# Altium schematic symbol library WS-DITU.SchLib: 6 symbols
Pins are listed as number, name and electrical type; pins without a type are passive.

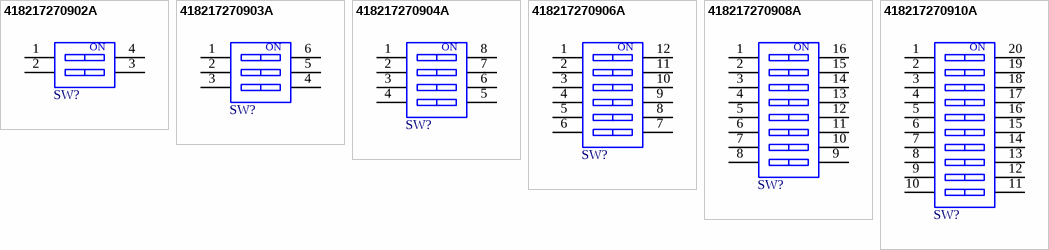
[diagram p0: symbols 418217270902A to 418217270910A]

## 418217270902A
designator SW?  (value not drawn)
WS-DITU Compact THT Right Angled Dip Switch, Raised Actuator, pitch 2.54mm, 2p; Manufacturer: Wurth Elektronik; Actuator Type: Raise Type; Operation Force: 800g; Rated Current Non-Switching: 100mA; Rated Current Switching: 25mA; Rated Voltage Non-Switching: 50VDC; Rated Voltage Switching: 24VDC; Number of Poles: 2; ComponentLink1Description: Website Link; ComponentLink1URL: https://www.we-online.com/redexpert/article/418217270902A?ad; ComponentLink2Description: Datasheet Link; ComponentLink2URL: https://www.we-online.com/redexpert/spec/418217270902A?ad; Manufacturer Part Number: 418217270902A; Category: Dip Switches; Match Code: WS-DITU; Mount: Through Hole; Operating Temperature Max: 85°C; Operating Temperature Min: -40°C; Packaging: Tube; Contact Material: Copper Alloy; Contact Plating: Gold; Pitch: 2.54mm
footprint 418217270902A
pins: 1, 2, 3, 4
text: ON

## 418217270903A
designator SW?  (value not drawn)
WS-DITU Compact THT Right Angled Dip Switch, Raised Actuator, pitch 2.54mm, 3p; Manufacturer: Wurth Elektronik; Actuator Type: Raise Type; Operation Force: 800g; Rated Current Non-Switching: 100mA; Rated Current Switching: 25mA; Rated Voltage Non-Switching: 50VDC; Rated Voltage Switching: 24VDC; Number of Poles: 3; ComponentLink1Description: Website Link; ComponentLink1URL: https://www.we-online.com/redexpert/article/418217270903A?ad; ComponentLink2Description: Datasheet Link; ComponentLink2URL: https://www.we-online.com/redexpert/spec/418217270903A?ad; Manufacturer Part Number: 418217270903A; Category: Dip Switches; Match Code: WS-DITU; Mount: Through Hole; Operating Temperature Max: 85°C; Operating Temperature Min: -40°C; Packaging: Tube; Contact Material: Copper Alloy; Contact Plating: Gold; Pitch: 2.54mm
footprint 418217270903A
pins: 1, 2, 3, 4, 5, 6
text: ON

## 418217270904A
designator SW?  (value not drawn)
WS-DITU Compact THT Right Angled Dip Switch, Raised Actuator, pitch 2.54mm, 4p; Manufacturer: Wurth Elektronik; Actuator Type: Raise Type; Operation Force: 800g; Rated Current Non-Switching: 100mA; Rated Current Switching: 25mA; Rated Voltage Non-Switching: 50VDC; Rated Voltage Switching: 24VDC; Number of Poles: 4; ComponentLink1Description: Website Link; ComponentLink1URL: https://www.we-online.com/redexpert/article/418217270904A?ad; ComponentLink2Description: Datasheet Link; ComponentLink2URL: https://www.we-online.com/redexpert/spec/418217270904A?ad; Manufacturer Part Number: 418217270904A; Category: Dip Switches; Match Code: WS-DITU; Mount: Through Hole; Operating Temperature Max: 85°C; Operating Temperature Min: -40°C; Packaging: Tube; Contact Material: Copper Alloy; Contact Plating: Gold; Pitch: 2.54mm
footprint 418217270904A
pins: 1, 2, 3, 4, 5, 6, 7, 8
text: ON

## 418217270906A
designator SW?  (value not drawn)
WS-DITU Compact THT Right Angled Dip Switch, Raised Actuator, pitch 2.54mm, 6p; Manufacturer: Wurth Elektronik; Actuator Type: Raise Type; Operation Force: 800g; Rated Current Non-Switching: 100mA; Rated Current Switching: 25mA; Rated Voltage Non-Switching: 50VDC; Rated Voltage Switching: 24VDC; Number of Poles: 6; ComponentLink1Description: Website Link; ComponentLink1URL: https://www.we-online.com/redexpert/article/418217270906A?ad; ComponentLink2Description: Datasheet Link; ComponentLink2URL: https://www.we-online.com/redexpert/spec/418217270906A?ad; Manufacturer Part Number: 418217270906A; Category: Dip Switches; Match Code: WS-DITU; Mount: Through Hole; Operating Temperature Max: 85°C; Operating Temperature Min: -40°C; Packaging: Tube; Contact Material: Copper Alloy; Contact Plating: Gold; Pitch: 2.54mm
footprint 418217270906A
pins: 1, 2, 3, 4, 5, 6, 7, 8, 9, 10, 11, 12
text: ON

## 418217270908A
designator SW?  (value not drawn)
WS-DITU Compact THT Right Angled Dip Switch, Raised Actuator, pitch 2.54mm, 8p; Manufacturer: Wurth Elektronik; Actuator Type: Raise Type; Operation Force: 800g; Rated Current Non-Switching: 100mA; Rated Current Switching: 25mA; Rated Voltage Non-Switching: 50VDC; Rated Voltage Switching: 24VDC; Number of Poles: 8; ComponentLink1Description: Website Link; ComponentLink1URL: https://www.we-online.com/redexpert/article/418217270908A?ad; ComponentLink2Description: Datasheet Link; ComponentLink2URL: https://www.we-online.com/redexpert/spec/418217270908A?ad; Manufacturer Part Number: 418217270908A; Category: Dip Switches; Match Code: WS-DITU; Mount: Through Hole; Operating Temperature Max: 85°C; Operating Temperature Min: -40°C; Packaging: Tube; Contact Material: Copper Alloy; Contact Plating: Gold; Pitch: 2.54mm
footprint 418217270908A
pins: 1, 2, 3, 4, 5, 6, 7, 8, 9, 10, 11, 12, 13, 14, 15, 16
text: ON

## 418217270910A
designator SW?  (value not drawn)
WS-DITU Compact THT Right Angled Dip Switch, Raised Actuator, pitch 2.54mm, 10p; Manufacturer: Wurth Elektronik; Actuator Type: Raise Type; Operation Force: 800g; Rated Current Non-Switching: 100mA; Rated Current Switching: 25mA; Rated Voltage Non-Switching: 50VDC; Rated Voltage Switching: 24VDC; Number of Poles: 10; ComponentLink1Description: Website Link; ComponentLink1URL: https://www.we-online.com/redexpert/article/418217270910A?ad; ComponentLink2Description: Datasheet Link; ComponentLink2URL: https://www.we-online.com/redexpert/spec/418217270910A?ad; Manufacturer Part Number: 418217270910A; Category: Dip Switches; Match Code: WS-DITU; Mount: Through Hole; Operating Temperature Max: 85°C; Operating Temperature Min: -40°C; Packaging: Tube; Contact Material: Copper Alloy; Contact Plating: Gold; Pitch: 2.54mm
footprint 418217270910A
pins: 1, 2, 3, 4, 5, 6, 7, 8, 9, 10, 11, 12, 13, 14, 15, 16, 17, 18, 19, 20
text: ON